# EAGLE library part LMG1020 (library texas)
Low-Side, Ultra-Fast Gate Driver for GaN and Silicon FETs
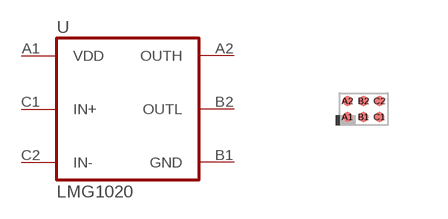
[diagram p124: symbol with the pads of DSBGA-6; footprint DSBGA-6]

Designator prefix U

## LMG1020  [DSBGA-6]
A1  VDD  pwr
A2  OUTH  out
B1  GND  pwr
B2  OUTL  out
C1  IN+  in
C2  IN-  in

## Footprint DSBGA-6 (pad centres in mm)
DIE-SIZE BALL GRID ARRAY - YFF ball pitch 0.4mm
smd 0.25 x 0.25: A1 -0.4,-0.2; A2 -0.4,0.2; B1 0,-0.2; B2 0,0.2; C1 0.4,-0.2; C2 0.4,0.2